# Altium schematic symbol library Chirpwear.SchLib: 5 symbols
Pins are listed as number, name and electrical type; pins without a type are passive.

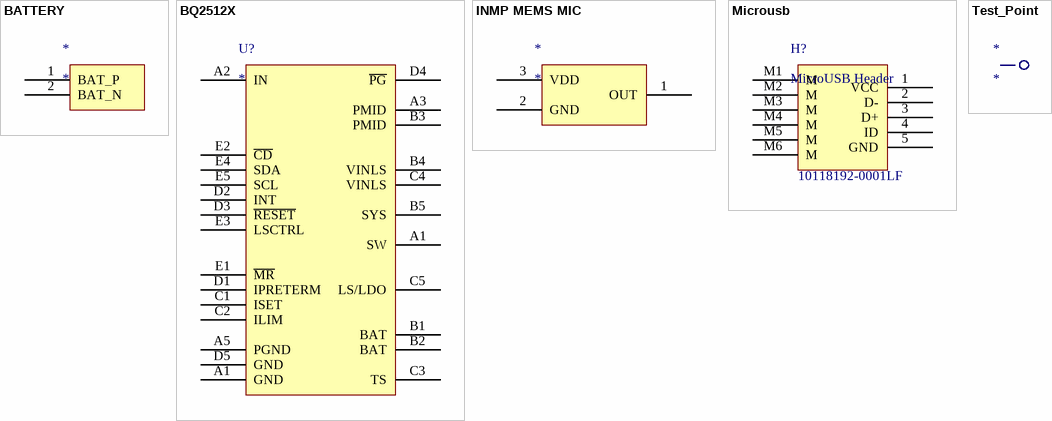
[diagram p0: symbols BATTERY to Test_Point]

## BATTERY
designator *
pins: 1 BAT_P, 2 BAT_N

## BQ2512X
designator U?
IC BATT CHG LI-ION 25DSBGA; Manufacturer: TI; Manufacturer PN: bq2512x
pins: A1 GND, A1 SW, A2 IN, A3 PMID, A5 PGND, B1 BAT, B2 BAT, B3 PMID, B4 VINLS, B5 SYS, C1 ISET, C2 ILIM, C3 TS, C4 VINLS, C5 LS/LDO, D1 IPRETERM, D2 INT, D3 ~{RESET}, D4 ~{PG}, D5 GND, E1 ~{MR}, E2 ~{CD}, E3 LSCTRL, E4 SDA, E5 SCL

## INMP MEMS MIC
designator *
pins: 1 OUT, 2 GND, 3 VDD

## Microusb
designator H?, comment MicroUSB Header  Manufacturer PN: 10118192-0001LF
USB - micro B USB 2.0 Receptacle Connector 5 Position Surface Mount, Right Angle, Horizontal; Manufacturer: Amphenol FCI; Digikey PN: 609-4613-1-ND
footprint Micro USB B
pins: 1 VCC, 2 D-, 3 D+, 4 ID, 5 GND, M1 M, M2 M, M3 M, M4 M, M5 M, M6 M

## Test_Point
designator *